# EAGLE library part TC4428ACOA (library TC4428AEOA)
DRIVER, MOSFET, DUAL 1.5A
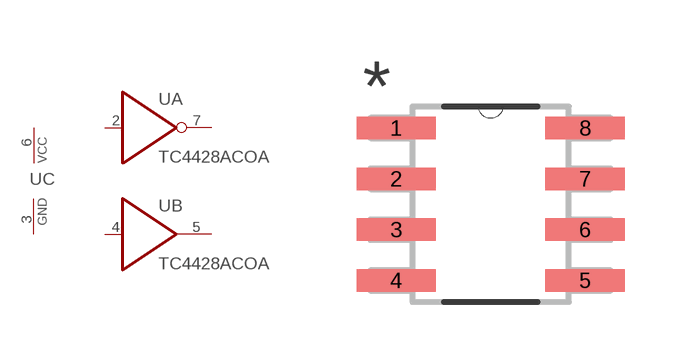
[diagram p0: symbol with the pads of SOIC127P600X175-8N; footprint SOIC127P600X175-8N]

Designator prefix U; gates A=7405 B=7407 C=PWRN

## TC4428ACOA (MPN: TC4428ACOA; OC_FARNELL: 1332312; OC_NEWARK: 34M8781; PACKAGE: SOIC-8; SUPPLIER: Microchip)  [SOIC127P600X175-8N]
2  A:I  in
3  C:GND  pwr
4  B:I  in
5  B:O  out
6  C:VCC  pwr
7  A:O  out

## Footprint SOIC127P600X175-8N (pad centres in mm)
smd 1.981 x 0.559: 1 -2.362,1.905; 2 -2.362,0.635; 3 -2.362,-0.635; 4 -2.362,-1.905; 5 2.362,-1.905; 6 2.362,-0.635; 7 2.362,0.635; 8 2.362,1.905